# Altium footprint library Resistor.PcbLib: 2 footprints
Each footprint in its own frame and in the unit in brackets; x right, y up, seen from the top. Pads: shape width x height; smd on the part's side, far side on the other; paste and mask are expansions set on the pad; w line width, h text height; cw(c..) or ccw(c..) is an arc to the next point about the centre after c.
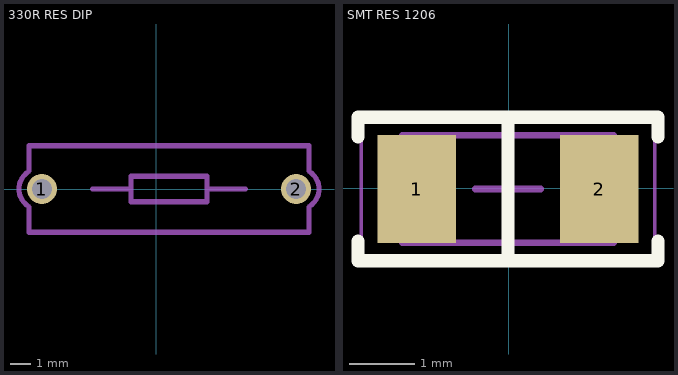
[diagram p0: the footprints below, top view; thin cyan lines are the x and y axes]

## 330R RES DIP [mm]
pads (2):
  round 1.5 hole 1: 1(-5.715,0) 2(6.985,0)
Mechanical 3:
  lines w0.254: -3.175,0 -1.27,0 ; 4.445,0 2.54,0 ; -6.35,-2.159 7.62,-2.159 ; -6.35,-2.159 -6.35,-0.889 ; -6.35,-2.159 7.62,-2.159 ; -6.35,-2.159 -6.35,-0.889 ; -6.35,-0.889 cw(c-5.826,0) -6.35,0.889 ; -6.35,-0.889 cw(c-5.826,0) -6.35,0.889 ; -6.35,0.889 -6.35,2.159 ; -6.35,0.889 -6.35,2.159 ; -6.35,2.159 7.62,2.159 ; -6.35,2.159 7.62,2.159 ; -1.27,0 -1.27,-0.635 2.54,-0.635 2.54,0 ; -1.27,0 -1.27,0.635 2.54,0.635 ; 2.54,0 2.54,0.635 ; 2.54,0 2.54,0.635 ; 7.62,-2.159 7.62,-0.889 ; 7.62,-2.159 7.62,-0.889 ; 7.62,-0.889 ccw(c7.096,0) 7.62,0.889 ; 7.62,-0.889 ccw(c7.096,0) 7.62,0.889 ; 7.62,0.889 7.62,2.159 ; 7.62,0.889 7.62,2.159
3D body "User Library-Res50-Axial 0_5W-330R.STEP": height 5.38, standoff -4, extent -6.09,-1.845 7.36,1.905

## SMT RES 1206 [mm]
pads (2):
  rect 1.2x1.65 smd: 1(-1.408,-0.015) 2(1.392,-0.015)
Top Overlay:
  lines w0.2: -2.308,-0.815 -2.308,-1.115 2.292,-1.115 2.292,-0.815 ; -2.308,0.785 -2.308,1.085 2.292,1.085 2.292,0.785 ; -0.008,-1.115 -0.008,1.085
Mechanical 13:
  lines w0.1: -1.633,-0.84 1.617,-0.84 1.617,0.81 -1.633,0.81 -1.633,-0.84
Mechanical 15:
  lines w0.05: -2.258,-1.115 2.242,-1.115 2.242,1.085 -2.258,1.085 -2.258,-1.115
  lines w0.1: -0.508,-0.015 0.492,-0.015 ; -0.008,-0.515 -0.008,0.485
3D body "1206 resistor.STEP": height 0.6, standoff 0, extent -1.608,-0.815 1.592,0.785